# Altium footprint library Connector_JST.PcbLib: 558 footprints (part 7 of 35)
Each footprint in its own frame and in the unit in brackets; x right, y up, seen from the top. Pads: shape width x height; smd on the part's side, far side on the other; paste and mask are expansions set on the pad; w line width, h text height; cw(c..) or ccw(c..) is an arc to the next point about the centre after c.
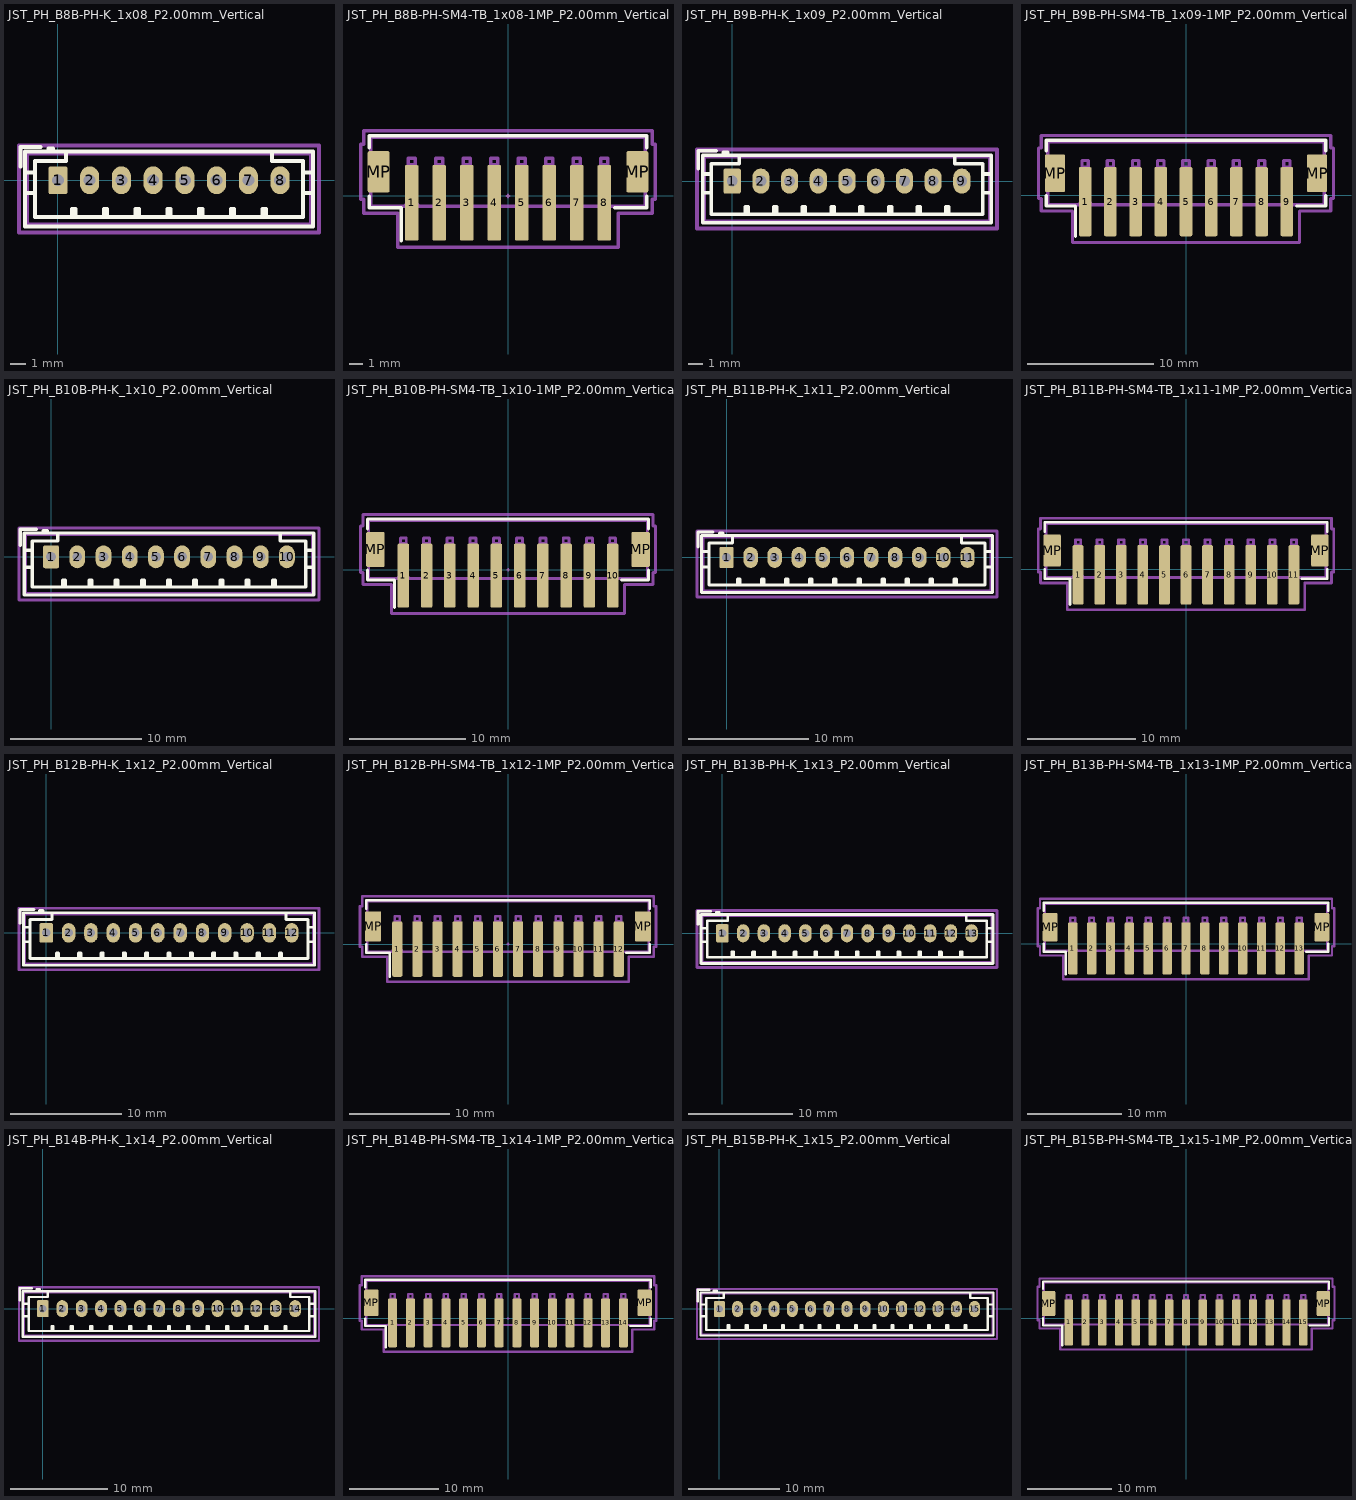
[diagram p6: the footprints below, top view; thin cyan lines are the x and y axes]

## JST_PH_B8B-PH-K_1x08_P2.00mm_Vertical [mm] "JST_PH_B8B-PH-K_1x08_P2.00mm_Vertical"
pads (8):
  rrect21% 1.2x1.75 hole 0.75: 1(0,0)
  rrect100% 1.2x1.75 hole 0.75: 2(2,0) 3(4,0) 4(6,0) 5(8,0) 6(10,0) 7(12,0) 8(14,0)
F.SilkS:
  lines w0.254: -2.36,0.86 -2.36,2.11 -1.11,2.11 ; -2.06,-0.8 -1.45,-0.8 ; -2.06,0.5 -1.45,0.5 ; -0.6,1.81 -0.6,2.01 -0.3,2.01 -0.3,1.81 ; -0.6,1.91 -0.3,1.91 ; 0.5,1.81 0.5,1.2 -1.45,1.2 -1.45,-2.3 15.45,-2.3 15.45,1.2 13.5,1.2 13.5,1.81 ; 0.9,-2.3 0.9,-1.8 1.1,-1.8 1.1,-2.3 ; 1,-2.3 1,-1.8 ; 2.9,-2.3 2.9,-1.8 3.1,-1.8 3.1,-2.3 ; 3,-2.3 3,-1.8 ; 4.9,-2.3 4.9,-1.8 5.1,-1.8 5.1,-2.3 ; 5,-2.3 5,-1.8 ; 6.9,-2.3 6.9,-1.8 7.1,-1.8 7.1,-2.3 ; 7,-2.3 7,-1.8 ; 8.9,-2.3 8.9,-1.8 9.1,-1.8 9.1,-2.3 ; 9,-2.3 9,-1.8 ; 10.9,-2.3 10.9,-1.8 11.1,-1.8 11.1,-2.3 ; 11,-2.3 11,-1.8 ; 12.9,-2.3 12.9,-1.8 13.1,-1.8 13.1,-2.3 ; 13,-2.3 13,-1.8 ; 15.45,-0.8 16.06,-0.8 ; 15.45,0.5 16.06,0.5 ; -2.06,-2.91 -2.06,1.81 16.06,1.81 16.06,-2.91 -2.06,-2.91
Top Component Center:
  lines w0.127: -0.127,0 0.127,0 ; 0,-0.127 0,0.127
Top Assembly:
  lines w0.254: -2.36,0.86 -2.36,2.11 -1.11,2.11 ; -1.95,-2.8 -1.95,1.7 15.95,1.7 15.95,-2.8 -1.95,-2.8
Top Courtyard:
  lines w0.254: -2.45,-3.3 -2.45,2.2 16.45,2.2 16.45,-3.3 -2.45,-3.3
Top Designator:
  text ".Designator" at 3.301,0.799 h1.52
3D body "JST_PH_B8B-PH-K_1x08_P2.00mm_Vertical.step": height 6, standoff -3.4, extent -1.95,-2.8 15.95,1.75

## JST_PH_B8B-PH-SM4-TB_1x08-1MP_P2.00mm_Vertical [mm] "JST_PH_B8B-PH-SM4-TB_1x08-1MP_P2.00mm_Vertical"
pads (10):
  rrect25% 1x5.5 smd: 1(-7,-0.5) 2(-5,-0.5) 3(-3,-0.5) 4(-1,-0.5) 5(1,-0.5) 6(3,-0.5) 7(5,-0.5) 8(7,-0.5)
  rrect16% 1.6x3 smd: MP(-9.4,1.75) MP(9.4,1.75)
F.SilkS:
  lines w0.254: -10.085,-0.01 -10.085,-0.86 -7.76,-0.86 -7.76,-3.25 ; -10.085,3.51 -10.085,4.36 10.085,4.36 10.085,3.51 ; 7.76,-0.86 10.085,-0.86 10.085,-0.01
Top Component Center:
  lines w0.127: -0.127,0 0.127,0 ; 0,-0.127 0,0.127
Top Assembly:
  lines w0.254: -7.5,-0.75 -7,-0.043 -6.5,-0.75 ; -9.975,-0.75 -9.975,4.25 9.975,4.25 9.975,-0.75 -9.975,-0.75 ; -7.25,2.25 -7.25,2.75 -6.75,2.75 -6.75,2.25 -7.25,2.25 ; -5.25,2.25 -5.25,2.75 -4.75,2.75 -4.75,2.25 -5.25,2.25 ; -3.25,2.25 -3.25,2.75 -2.75,2.75 -2.75,2.25 -3.25,2.25 ; -1.25,2.25 -1.25,2.75 -0.75,2.75 -0.75,2.25 -1.25,2.25 ; 0.75,2.25 0.75,2.75 1.25,2.75 1.25,2.25 0.75,2.25 ; 2.75,2.25 2.75,2.75 3.25,2.75 3.25,2.25 2.75,2.25 ; 4.75,2.25 4.75,2.75 5.25,2.75 5.25,2.25 4.75,2.25 ; 6.75,2.25 6.75,2.75 7.25,2.75 7.25,2.25 6.75,2.25
Top Courtyard:
  lines w0.254: -10.7,-0.25 -10.7,3.75 -10.48,3.75 -10.48,4.75 10.48,4.75 10.48,3.75 10.7,3.75 10.7,-0.25 10.48,-0.25 10.48,-1.25 8,-1.25 8,-3.75 -8,-3.75 -8,-1.25 -10.48,-1.25 -10.48,-0.25 -10.7,-0.25
Top Designator:
  text ".Designator" at -3.43,3.085 h1.52

## JST_PH_B9B-PH-K_1x09_P2.00mm_Vertical [mm] "JST_PH_B9B-PH-K_1x09_P2.00mm_Vertical"
pads (9):
  rrect21% 1.2x1.75 hole 0.75: 1(0,0)
  rrect100% 1.2x1.75 hole 0.75: 2(2,0) 3(4,0) 4(6,0) 5(8,0) 6(10,0) 7(12,0) 8(14,0) 9(16,0)
F.SilkS:
  lines w0.254: -2.36,0.86 -2.36,2.11 -1.11,2.11 ; -2.06,-0.8 -1.45,-0.8 ; -2.06,0.5 -1.45,0.5 ; -0.6,1.81 -0.6,2.01 -0.3,2.01 -0.3,1.81 ; -0.6,1.91 -0.3,1.91 ; 0.5,1.81 0.5,1.2 -1.45,1.2 -1.45,-2.3 17.45,-2.3 17.45,1.2 15.5,1.2 15.5,1.81 ; 0.9,-2.3 0.9,-1.8 1.1,-1.8 1.1,-2.3 ; 1,-2.3 1,-1.8 ; 2.9,-2.3 2.9,-1.8 3.1,-1.8 3.1,-2.3 ; 3,-2.3 3,-1.8 ; 4.9,-2.3 4.9,-1.8 5.1,-1.8 5.1,-2.3 ; 5,-2.3 5,-1.8 ; 6.9,-2.3 6.9,-1.8 7.1,-1.8 7.1,-2.3 ; 7,-2.3 7,-1.8 ; 8.9,-2.3 8.9,-1.8 9.1,-1.8 9.1,-2.3 ; 9,-2.3 9,-1.8 ; 10.9,-2.3 10.9,-1.8 11.1,-1.8 11.1,-2.3 ; 11,-2.3 11,-1.8 ; 12.9,-2.3 12.9,-1.8 13.1,-1.8 13.1,-2.3 ; 13,-2.3 13,-1.8 ; 14.9,-2.3 14.9,-1.8 15.1,-1.8 15.1,-2.3 ; 15,-2.3 15,-1.8 ; 17.45,-0.8 18.06,-0.8 ; 17.45,0.5 18.06,0.5 ; -2.06,-2.91 18.06,-2.91 18.06,1.81 -2.06,1.81 -2.06,-2.91
Top Component Center:
  lines w0.127: -0.127,0 0.127,0 ; 0,-0.127 0,0.127
Top Assembly:
  lines w0.254: -2.36,0.86 -2.36,2.11 -1.11,2.11 ; -1.95,-2.8 17.95,-2.8 17.95,1.7 -1.95,1.7 -1.95,-2.8
Top Courtyard:
  lines w0.254: -2.45,-3.3 18.45,-3.3 18.45,2.2 -2.45,2.2 -2.45,-3.3
Top Designator:
  text ".Designator" at 3.682,0.799 h1.52
3D body "JST_PH_B9B-PH-K_1x09_P2.00mm_Vertical.step": height 6, standoff -3.4, extent -1.95,-2.8 17.95,1.75

## JST_PH_B9B-PH-SM4-TB_1x09-1MP_P2.00mm_Vertical [mm] "JST_PH_B9B-PH-SM4-TB_1x09-1MP_P2.00mm_Vertical"
pads (11):
  rrect25% 1x5.5 smd: 1(-8,-0.5) 2(-6,-0.5) 3(-4,-0.5) 4(-2,-0.5) 5(0,-0.5) 6(2,-0.5) 7(4,-0.5) 8(6,-0.5) 9(8,-0.5)
  rrect16% 1.6x3 smd: MP(-10.4,1.75) MP(10.4,1.75)
F.SilkS:
  lines w0.254: -11.085,-0.01 -11.085,-0.86 -8.76,-0.86 -8.76,-3.25 ; -11.085,3.51 -11.085,4.36 11.085,4.36 11.085,3.51 ; 8.76,-0.86 11.085,-0.86 11.085,-0.01
Top Component Center:
  lines w0.127: -0.127,0 0.127,0 ; 0,-0.127 0,0.127
Top Assembly:
  lines w0.254: -8.5,-0.75 -8,-0.043 -7.5,-0.75 ; -10.975,-0.75 10.975,-0.75 10.975,4.25 -10.975,4.25 -10.975,-0.75 ; -8.25,2.25 -7.75,2.25 -7.75,2.75 -8.25,2.75 -8.25,2.25 ; -6.25,2.25 -5.75,2.25 -5.75,2.75 -6.25,2.75 -6.25,2.25 ; -4.25,2.25 -3.75,2.25 -3.75,2.75 -4.25,2.75 -4.25,2.25 ; -2.25,2.25 -1.75,2.25 -1.75,2.75 -2.25,2.75 -2.25,2.25 ; -0.25,2.25 0.25,2.25 0.25,2.75 -0.25,2.75 -0.25,2.25 ; 1.75,2.25 2.25,2.25 2.25,2.75 1.75,2.75 1.75,2.25 ; 3.75,2.25 4.25,2.25 4.25,2.75 3.75,2.75 3.75,2.25 ; 5.75,2.25 6.25,2.25 6.25,2.75 5.75,2.75 5.75,2.25 ; 7.75,2.25 8.25,2.25 8.25,2.75 7.75,2.75 7.75,2.25
Top Courtyard:
  lines w0.254: -11.7,-0.25 -11.48,-0.25 -11.48,-1.25 -9,-1.25 -9,-3.75 9,-3.75 9,-1.25 11.48,-1.25 11.48,-0.25 11.7,-0.25 11.7,3.75 11.48,3.75 11.48,4.75 -11.48,4.75 -11.48,3.75 -11.7,3.75 -11.7,-0.25
Top Designator:
  text ".Designator" at -3.43,3.085 h1.52

## JST_PH_B10B-PH-K_1x10_P2.00mm_Vertical [mm] "JST_PH_B10B-PH-K_1x10_P2.00mm_Vertical"
pads (10):
  rrect21% 1.2x1.75 hole 0.75: 1(0,0)
  rrect100% 1.2x1.75 hole 0.75: 2(2,0) 3(4,0) 4(6,0) 5(8,0) 6(10,0) 7(12,0) 8(14,0) 9(16,0) 10(18,0)
F.SilkS:
  lines w0.254: -2.36,0.86 -2.36,2.11 -1.11,2.11 ; -2.06,-0.8 -1.45,-0.8 ; -2.06,0.5 -1.45,0.5 ; -0.6,1.81 -0.6,2.01 -0.3,2.01 -0.3,1.81 ; -0.6,1.91 -0.3,1.91 ; 0.5,1.81 0.5,1.2 -1.45,1.2 -1.45,-2.3 19.45,-2.3 19.45,1.2 17.5,1.2 17.5,1.81 ; 0.9,-2.3 0.9,-1.8 1.1,-1.8 1.1,-2.3 ; 1,-2.3 1,-1.8 ; 2.9,-2.3 2.9,-1.8 3.1,-1.8 3.1,-2.3 ; 3,-2.3 3,-1.8 ; 4.9,-2.3 4.9,-1.8 5.1,-1.8 5.1,-2.3 ; 5,-2.3 5,-1.8 ; 6.9,-2.3 6.9,-1.8 7.1,-1.8 7.1,-2.3 ; 7,-2.3 7,-1.8 ; 8.9,-2.3 8.9,-1.8 9.1,-1.8 9.1,-2.3 ; 9,-2.3 9,-1.8 ; 10.9,-2.3 10.9,-1.8 11.1,-1.8 11.1,-2.3 ; 11,-2.3 11,-1.8 ; 12.9,-2.3 12.9,-1.8 13.1,-1.8 13.1,-2.3 ; 13,-2.3 13,-1.8 ; 14.9,-2.3 14.9,-1.8 15.1,-1.8 15.1,-2.3 ; 15,-2.3 15,-1.8 ; 16.9,-2.3 16.9,-1.8 17.1,-1.8 17.1,-2.3 ; 17,-2.3 17,-1.8 ; 19.45,-0.8 20.06,-0.8 ; 19.45,0.5 20.06,0.5 ; -2.06,-2.91 20.06,-2.91 20.06,1.81 -2.06,1.81 -2.06,-2.91
Top Component Center:
  lines w0.127: -0.127,0 0.127,0 ; 0,-0.127 0,0.127
Top Assembly:
  lines w0.254: -2.36,0.86 -2.36,2.11 -1.11,2.11 ; -1.95,-2.8 19.95,-2.8 19.95,1.7 -1.95,1.7 -1.95,-2.8
Top Courtyard:
  lines w0.254: -2.45,-3.3 20.45,-3.3 20.45,2.2 -2.45,2.2 -2.45,-3.3
Top Designator:
  text ".Designator" at 5.587,0.799 h1.52
3D body "JST_PH_B10B-PH-K_1x10_P2.00mm_Vertical.step": height 6, standoff -3.4, extent -1.95,-2.8 19.95,1.75

## JST_PH_B10B-PH-SM4-TB_1x10-1MP_P2.00mm_Vertical [mm] "JST_PH_B10B-PH-SM4-TB_1x10-1MP_P2.00mm_Vertical"
pads (12):
  rrect25% 1x5.5 smd: 1(-9,-0.5) 2(-7,-0.5) 3(-5,-0.5) 4(-3,-0.5) 5(-1,-0.5) 6(1,-0.5) 7(3,-0.5) 8(5,-0.5) 9(7,-0.5) 10(9,-0.5)
  rrect16% 1.6x3 smd: MP(-11.4,1.75) MP(11.4,1.75)
F.SilkS:
  lines w0.254: -12.085,-0.01 -12.085,-0.86 -9.76,-0.86 -9.76,-3.25 ; -12.085,3.51 -12.085,4.36 12.085,4.36 12.085,3.51 ; 9.76,-0.86 12.085,-0.86 12.085,-0.01
Top Component Center:
  lines w0.127: -0.127,0 0.127,0 ; 0,-0.127 0,0.127
Top Assembly:
  lines w0.254: -9.5,-0.75 -9,-0.043 -8.5,-0.75 ; -11.975,-0.75 -11.975,4.25 11.975,4.25 11.975,-0.75 -11.975,-0.75 ; -9.25,2.25 -9.25,2.75 -8.75,2.75 -8.75,2.25 -9.25,2.25 ; -7.25,2.25 -7.25,2.75 -6.75,2.75 -6.75,2.25 -7.25,2.25 ; -5.25,2.25 -5.25,2.75 -4.75,2.75 -4.75,2.25 -5.25,2.25 ; -3.25,2.25 -3.25,2.75 -2.75,2.75 -2.75,2.25 -3.25,2.25 ; -1.25,2.25 -1.25,2.75 -0.75,2.75 -0.75,2.25 -1.25,2.25 ; 0.75,2.25 0.75,2.75 1.25,2.75 1.25,2.25 0.75,2.25 ; 2.75,2.25 2.75,2.75 3.25,2.75 3.25,2.25 2.75,2.25 ; 4.75,2.25 4.75,2.75 5.25,2.75 5.25,2.25 4.75,2.25 ; 6.75,2.25 6.75,2.75 7.25,2.75 7.25,2.25 6.75,2.25 ; 8.75,2.25 8.75,2.75 9.25,2.75 9.25,2.25 8.75,2.25
Top Courtyard:
  lines w0.254: -12.7,-0.25 -12.7,3.75 -12.48,3.75 -12.48,4.75 12.48,4.75 12.48,3.75 12.7,3.75 12.7,-0.25 12.48,-0.25 12.48,-1.25 10,-1.25 10,-3.75 -10,-3.75 -10,-1.25 -12.48,-1.25 -12.48,-0.25 -12.7,-0.25
Top Designator:
  text ".Designator" at -3.557,3.212 h1.52

## JST_PH_B11B-PH-K_1x11_P2.00mm_Vertical [mm] "JST_PH_B11B-PH-K_1x11_P2.00mm_Vertical"
pads (11):
  rrect21% 1.2x1.75 hole 0.75: 1(0,0)
  rrect100% 1.2x1.75 hole 0.75: 2(2,0) 3(4,0) 4(6,0) 5(8,0) 6(10,0) 7(12,0) 8(14,0) 9(16,0) 10(18,0) 11(20,0)
F.SilkS:
  lines w0.254: -2.36,0.86 -2.36,2.11 -1.11,2.11 ; -2.06,-0.8 -1.45,-0.8 ; -2.06,0.5 -1.45,0.5 ; -0.6,1.81 -0.6,2.01 -0.3,2.01 -0.3,1.81 ; -0.6,1.91 -0.3,1.91 ; 0.5,1.81 0.5,1.2 -1.45,1.2 -1.45,-2.3 21.45,-2.3 21.45,1.2 19.5,1.2 19.5,1.81 ; 0.9,-2.3 0.9,-1.8 1.1,-1.8 1.1,-2.3 ; 1,-2.3 1,-1.8 ; 2.9,-2.3 2.9,-1.8 3.1,-1.8 3.1,-2.3 ; 3,-2.3 3,-1.8 ; 4.9,-2.3 4.9,-1.8 5.1,-1.8 5.1,-2.3 ; 5,-2.3 5,-1.8 ; 6.9,-2.3 6.9,-1.8 7.1,-1.8 7.1,-2.3 ; 7,-2.3 7,-1.8 ; 8.9,-2.3 8.9,-1.8 9.1,-1.8 9.1,-2.3 ; 9,-2.3 9,-1.8 ; 10.9,-2.3 10.9,-1.8 11.1,-1.8 11.1,-2.3 ; 11,-2.3 11,-1.8 ; 12.9,-2.3 12.9,-1.8 13.1,-1.8 13.1,-2.3 ; 13,-2.3 13,-1.8 ; 14.9,-2.3 14.9,-1.8 15.1,-1.8 15.1,-2.3 ; 15,-2.3 15,-1.8 ; 16.9,-2.3 16.9,-1.8 17.1,-1.8 17.1,-2.3 ; 17,-2.3 17,-1.8 ; 18.9,-2.3 18.9,-1.8 19.1,-1.8 19.1,-2.3 ; 19,-2.3 19,-1.8 ; 21.45,-0.8 22.06,-0.8 ; 21.45,0.5 22.06,0.5 ; -2.06,-2.91 -2.06,1.81 22.06,1.81 22.06,-2.91 -2.06,-2.91
Top Component Center:
  lines w0.127: -0.127,0 0.127,0 ; 0,-0.127 0,0.127
Top Assembly:
  lines w0.254: -2.36,0.86 -2.36,2.11 -1.11,2.11 ; -1.95,-2.8 -1.95,1.7 21.95,1.7 21.95,-2.8 -1.95,-2.8
Top Courtyard:
  lines w0.254: -2.45,-3.3 -2.45,2.2 22.45,2.2 22.45,-3.3 -2.45,-3.3
Top Designator:
  text ".Designator" at 5.46,0.672 h1.52
3D body "JST_PH_B11B-PH-K_1x11_P2.00mm_Vertical.step": height 6, standoff -3.4, extent -1.95,-2.8 21.95,1.75

## JST_PH_B11B-PH-SM4-TB_1x11-1MP_P2.00mm_Vertical [mm] "JST_PH_B11B-PH-SM4-TB_1x11-1MP_P2.00mm_Vertical"
pads (13):
  rrect25% 1x5.5 smd: 1(-10,-0.5) 2(-8,-0.5) 3(-6,-0.5) 4(-4,-0.5) 5(-2,-0.5) 6(0,-0.5) 7(2,-0.5) 8(4,-0.5) 9(6,-0.5) 10(8,-0.5) 11(10,-0.5)
  rrect16% 1.6x3 smd: MP(-12.4,1.75) MP(12.4,1.75)
F.SilkS:
  lines w0.254: -13.085,-0.01 -13.085,-0.86 -10.76,-0.86 -10.76,-3.25 ; -13.085,3.51 -13.085,4.36 13.085,4.36 13.085,3.51 ; 10.76,-0.86 13.085,-0.86 13.085,-0.01
Top Component Center:
  lines w0.127: -0.127,0 0.127,0 ; 0,-0.127 0,0.127
Top Assembly:
  lines w0.254: -10.5,-0.75 -10,-0.043 -9.5,-0.75 ; -12.975,-0.75 -12.975,4.25 12.975,4.25 12.975,-0.75 -12.975,-0.75 ; -10.25,2.25 -10.25,2.75 -9.75,2.75 -9.75,2.25 -10.25,2.25 ; -8.25,2.25 -8.25,2.75 -7.75,2.75 -7.75,2.25 -8.25,2.25 ; -6.25,2.25 -6.25,2.75 -5.75,2.75 -5.75,2.25 -6.25,2.25 ; -4.25,2.25 -4.25,2.75 -3.75,2.75 -3.75,2.25 -4.25,2.25 ; -2.25,2.25 -2.25,2.75 -1.75,2.75 -1.75,2.25 -2.25,2.25 ; -0.25,2.25 -0.25,2.75 0.25,2.75 0.25,2.25 -0.25,2.25 ; 1.75,2.25 1.75,2.75 2.25,2.75 2.25,2.25 1.75,2.25 ; 3.75,2.25 3.75,2.75 4.25,2.75 4.25,2.25 3.75,2.25 ; 5.75,2.25 5.75,2.75 6.25,2.75 6.25,2.25 5.75,2.25 ; 7.75,2.25 7.75,2.75 8.25,2.75 8.25,2.25 7.75,2.25 ; 9.75,2.25 9.75,2.75 10.25,2.75 10.25,2.25 9.75,2.25
Top Courtyard:
  lines w0.254: -13.7,-0.25 -13.7,3.75 -13.48,3.75 -13.48,4.75 13.48,4.75 13.48,3.75 13.7,3.75 13.7,-0.25 13.48,-0.25 13.48,-1.25 11,-1.25 11,-3.75 -11,-3.75 -11,-1.25 -13.48,-1.25 -13.48,-0.25 -13.7,-0.25
Top Designator:
  text ".Designator" at -3.43,3.085 h1.52

## JST_PH_B12B-PH-K_1x12_P2.00mm_Vertical [mm] "JST_PH_B12B-PH-K_1x12_P2.00mm_Vertical"
pads (12):
  rrect21% 1.2x1.75 hole 0.75: 1(0,0)
  rrect100% 1.2x1.75 hole 0.75: 2(2,0) 3(4,0) 4(6,0) 5(8,0) 6(10,0) 7(12,0) 8(14,0) 9(16,0) 10(18,0) 11(20,0) 12(22,0)
F.SilkS:
  lines w0.254: -2.36,0.86 -2.36,2.11 -1.11,2.11 ; -2.06,-0.8 -1.45,-0.8 ; -2.06,0.5 -1.45,0.5 ; -0.6,1.81 -0.6,2.01 -0.3,2.01 -0.3,1.81 ; -0.6,1.91 -0.3,1.91 ; 0.5,1.81 0.5,1.2 -1.45,1.2 -1.45,-2.3 23.45,-2.3 23.45,1.2 21.5,1.2 21.5,1.81 ; 0.9,-2.3 0.9,-1.8 1.1,-1.8 1.1,-2.3 ; 1,-2.3 1,-1.8 ; 2.9,-2.3 2.9,-1.8 3.1,-1.8 3.1,-2.3 ; 3,-2.3 3,-1.8 ; 4.9,-2.3 4.9,-1.8 5.1,-1.8 5.1,-2.3 ; 5,-2.3 5,-1.8 ; 6.9,-2.3 6.9,-1.8 7.1,-1.8 7.1,-2.3 ; 7,-2.3 7,-1.8 ; 8.9,-2.3 8.9,-1.8 9.1,-1.8 9.1,-2.3 ; 9,-2.3 9,-1.8 ; 10.9,-2.3 10.9,-1.8 11.1,-1.8 11.1,-2.3 ; 11,-2.3 11,-1.8 ; 12.9,-2.3 12.9,-1.8 13.1,-1.8 13.1,-2.3 ; 13,-2.3 13,-1.8 ; 14.9,-2.3 14.9,-1.8 15.1,-1.8 15.1,-2.3 ; 15,-2.3 15,-1.8 ; 16.9,-2.3 16.9,-1.8 17.1,-1.8 17.1,-2.3 ; 17,-2.3 17,-1.8 ; 18.9,-2.3 18.9,-1.8 19.1,-1.8 19.1,-2.3 ; 19,-2.3 19,-1.8 ; 20.9,-2.3 20.9,-1.8 21.1,-1.8 21.1,-2.3 ; 21,-2.3 21,-1.8 ; 23.45,-0.8 24.06,-0.8 ; 23.45,0.5 24.06,0.5 ; -2.06,-2.91 24.06,-2.91 24.06,1.81 -2.06,1.81 -2.06,-2.91
Top Component Center:
  lines w0.127: -0.127,0 0.127,0 ; 0,-0.127 0,0.127
Top Assembly:
  lines w0.254: -2.36,0.86 -2.36,2.11 -1.11,2.11 ; -1.95,-2.8 23.95,-2.8 23.95,1.7 -1.95,1.7 -1.95,-2.8
Top Courtyard:
  lines w0.254: -2.45,-3.3 24.45,-3.3 24.45,2.2 -2.45,2.2 -2.45,-3.3
Top Designator:
  text ".Designator" at 7.492,0.672 h1.52
3D body "JST_PH_B12B-PH-K_1x12_P2.00mm_Vertical.step": height 6, standoff -3.4, extent -1.95,-2.8 23.95,1.75

## JST_PH_B12B-PH-SM4-TB_1x12-1MP_P2.00mm_Vertical [mm] "JST_PH_B12B-PH-SM4-TB_1x12-1MP_P2.00mm_Vertical"
pads (14):
  rrect25% 1x5.5 smd: 1(-11,-0.5) 2(-9,-0.5) 3(-7,-0.5) 4(-5,-0.5) 5(-3,-0.5) 6(-1,-0.5) 7(1,-0.5) 8(3,-0.5) 9(5,-0.5) 10(7,-0.5) 11(9,-0.5) 12(11,-0.5)
  rrect16% 1.6x3 smd: MP(-13.4,1.75) MP(13.4,1.75)
F.SilkS:
  lines w0.254: -14.085,-0.01 -14.085,-0.86 -11.76,-0.86 -11.76,-3.25 ; -14.085,3.51 -14.085,4.36 14.085,4.36 14.085,3.51 ; 11.76,-0.86 14.085,-0.86 14.085,-0.01
Top Component Center:
  lines w0.127: -0.127,0 0.127,0 ; 0,-0.127 0,0.127
Top Assembly:
  lines w0.254: -11.5,-0.75 -11,-0.043 -10.5,-0.75 ; -13.975,-0.75 13.975,-0.75 13.975,4.25 -13.975,4.25 -13.975,-0.75 ; -11.25,2.25 -10.75,2.25 -10.75,2.75 -11.25,2.75 -11.25,2.25 ; -9.25,2.25 -8.75,2.25 -8.75,2.75 -9.25,2.75 -9.25,2.25 ; -7.25,2.25 -6.75,2.25 -6.75,2.75 -7.25,2.75 -7.25,2.25 ; -5.25,2.25 -4.75,2.25 -4.75,2.75 -5.25,2.75 -5.25,2.25 ; -3.25,2.25 -2.75,2.25 -2.75,2.75 -3.25,2.75 -3.25,2.25 ; -1.25,2.25 -0.75,2.25 -0.75,2.75 -1.25,2.75 -1.25,2.25 ; 0.75,2.25 1.25,2.25 1.25,2.75 0.75,2.75 0.75,2.25 ; 2.75,2.25 3.25,2.25 3.25,2.75 2.75,2.75 2.75,2.25 ; 4.75,2.25 5.25,2.25 5.25,2.75 4.75,2.75 4.75,2.25 ; 6.75,2.25 7.25,2.25 7.25,2.75 6.75,2.75 6.75,2.25 ; 8.75,2.25 9.25,2.25 9.25,2.75 8.75,2.75 8.75,2.25 ; 10.75,2.25 11.25,2.25 11.25,2.75 10.75,2.75 10.75,2.25
Top Courtyard:
  lines w0.254: -14.7,-0.25 -14.48,-0.25 -14.48,-1.25 -12,-1.25 -12,-3.75 12,-3.75 12,-1.25 14.48,-1.25 14.48,-0.25 14.7,-0.25 14.7,3.75 14.48,3.75 14.48,4.75 -14.48,4.75 -14.48,3.75 -14.7,3.75 -14.7,-0.25
Top Designator:
  text ".Designator" at -3.43,3.212 h1.52

## JST_PH_B13B-PH-K_1x13_P2.00mm_Vertical [mm] "JST_PH_B13B-PH-K_1x13_P2.00mm_Vertical"
pads (13):
  rrect21% 1.2x1.75 hole 0.75: 1(0,0)
  rrect100% 1.2x1.75 hole 0.75: 2(2,0) 3(4,0) 4(6,0) 5(8,0) 6(10,0) 7(12,0) 8(14,0) 9(16,0) 10(18,0) 11(20,0) 12(22,0) 13(24,0)
F.SilkS:
  lines w0.254: -2.36,0.86 -2.36,2.11 -1.11,2.11 ; -2.06,-0.8 -1.45,-0.8 ; -2.06,0.5 -1.45,0.5 ; -0.6,1.81 -0.6,2.01 -0.3,2.01 -0.3,1.81 ; -0.6,1.91 -0.3,1.91 ; 0.5,1.81 0.5,1.2 -1.45,1.2 -1.45,-2.3 25.45,-2.3 25.45,1.2 23.5,1.2 23.5,1.81 ; 0.9,-2.3 0.9,-1.8 1.1,-1.8 1.1,-2.3 ; 1,-2.3 1,-1.8 ; 2.9,-2.3 2.9,-1.8 3.1,-1.8 3.1,-2.3 ; 3,-2.3 3,-1.8 ; 4.9,-2.3 4.9,-1.8 5.1,-1.8 5.1,-2.3 ; 5,-2.3 5,-1.8 ; 6.9,-2.3 6.9,-1.8 7.1,-1.8 7.1,-2.3 ; 7,-2.3 7,-1.8 ; 8.9,-2.3 8.9,-1.8 9.1,-1.8 9.1,-2.3 ; 9,-2.3 9,-1.8 ; 10.9,-2.3 10.9,-1.8 11.1,-1.8 11.1,-2.3 ; 11,-2.3 11,-1.8 ; 12.9,-2.3 12.9,-1.8 13.1,-1.8 13.1,-2.3 ; 13,-2.3 13,-1.8 ; 14.9,-2.3 14.9,-1.8 15.1,-1.8 15.1,-2.3 ; 15,-2.3 15,-1.8 ; 16.9,-2.3 16.9,-1.8 17.1,-1.8 17.1,-2.3 ; 17,-2.3 17,-1.8 ; 18.9,-2.3 18.9,-1.8 19.1,-1.8 19.1,-2.3 ; 19,-2.3 19,-1.8 ; 20.9,-2.3 20.9,-1.8 21.1,-1.8 21.1,-2.3 ; 21,-2.3 21,-1.8 ; 22.9,-2.3 22.9,-1.8 23.1,-1.8 23.1,-2.3 ; 23,-2.3 23,-1.8 ; 25.45,-0.8 26.06,-0.8 ; 25.45,0.5 26.06,0.5 ; -2.06,-2.91 26.06,-2.91 26.06,1.81 -2.06,1.81 -2.06,-2.91
Top Component Center:
  lines w0.127: -0.127,0 0.127,0 ; 0,-0.127 0,0.127
Top Assembly:
  lines w0.254: -2.36,0.86 -2.36,2.11 -1.11,2.11 ; -1.95,-2.8 25.95,-2.8 25.95,1.7 -1.95,1.7 -1.95,-2.8
Top Courtyard:
  lines w0.254: -2.45,-3.3 26.45,-3.3 26.45,2.2 -2.45,2.2 -2.45,-3.3
Top Designator:
  text ".Designator" at 7.619,0.672 h1.52
3D body "JST_PH_B13B-PH-K_1x13_P2.00mm_Vertical.step": height 6, standoff -3.4, extent -1.95,-2.8 25.95,1.75

## JST_PH_B13B-PH-SM4-TB_1x13-1MP_P2.00mm_Vertical [mm] "JST_PH_B13B-PH-SM4-TB_1x13-1MP_P2.00mm_Vertical"
pads (15):
  rrect25% 1x5.5 smd: 1(-12,-0.5) 2(-10,-0.5) 3(-8,-0.5) 4(-6,-0.5) 5(-4,-0.5) 6(-2,-0.5) 7(0,-0.5) 8(2,-0.5) 9(4,-0.5) 10(6,-0.5) 11(8,-0.5) 12(10,-0.5) 13(12,-0.5)
  rrect16% 1.6x3 smd: MP(-14.4,1.75) MP(14.4,1.75)
F.SilkS:
  lines w0.254: -15.085,-0.01 -15.085,-0.86 -12.76,-0.86 -12.76,-3.25 ; -15.085,3.51 -15.085,4.36 15.085,4.36 15.085,3.51 ; 12.76,-0.86 15.085,-0.86 15.085,-0.01
Top Component Center:
  lines w0.127: -0.127,0 0.127,0 ; 0,-0.127 0,0.127
Top Assembly:
  lines w0.254: -12.5,-0.75 -12,-0.043 -11.5,-0.75 ; -14.975,-0.75 14.975,-0.75 14.975,4.25 -14.975,4.25 -14.975,-0.75 ; -12.25,2.25 -11.75,2.25 -11.75,2.75 -12.25,2.75 -12.25,2.25 ; -10.25,2.25 -9.75,2.25 -9.75,2.75 -10.25,2.75 -10.25,2.25 ; -8.25,2.25 -7.75,2.25 -7.75,2.75 -8.25,2.75 -8.25,2.25 ; -6.25,2.25 -5.75,2.25 -5.75,2.75 -6.25,2.75 -6.25,2.25 ; -4.25,2.25 -3.75,2.25 -3.75,2.75 -4.25,2.75 -4.25,2.25 ; -2.25,2.25 -1.75,2.25 -1.75,2.75 -2.25,2.75 -2.25,2.25 ; -0.25,2.25 0.25,2.25 0.25,2.75 -0.25,2.75 -0.25,2.25 ; 1.75,2.25 2.25,2.25 2.25,2.75 1.75,2.75 1.75,2.25 ; 3.75,2.25 4.25,2.25 4.25,2.75 3.75,2.75 3.75,2.25 ; 5.75,2.25 6.25,2.25 6.25,2.75 5.75,2.75 5.75,2.25 ; 7.75,2.25 8.25,2.25 8.25,2.75 7.75,2.75 7.75,2.25 ; 9.75,2.25 10.25,2.25 10.25,2.75 9.75,2.75 9.75,2.25 ; 11.75,2.25 12.25,2.25 12.25,2.75 11.75,2.75 11.75,2.25
Top Courtyard:
  lines w0.254: -15.7,-0.25 -15.48,-0.25 -15.48,-1.25 -13,-1.25 -13,-3.75 13,-3.75 13,-1.25 15.48,-1.25 15.48,-0.25 15.7,-0.25 15.7,3.75 15.48,3.75 15.48,4.75 -15.48,4.75 -15.48,3.75 -15.7,3.75 -15.7,-0.25
Top Designator:
  text ".Designator" at -3.303,3.212 h1.52

## JST_PH_B14B-PH-K_1x14_P2.00mm_Vertical [mm] "JST_PH_B14B-PH-K_1x14_P2.00mm_Vertical"
pads (14):
  rrect21% 1.2x1.75 hole 0.75: 1(0,0)
  rrect100% 1.2x1.75 hole 0.75: 2(2,0) 3(4,0) 4(6,0) 5(8,0) 6(10,0) 7(12,0) 8(14,0) 9(16,0) 10(18,0) 11(20,0) 12(22,0) 13(24,0) 14(26,0)
F.SilkS:
  lines w0.254: -2.36,0.86 -2.36,2.11 -1.11,2.11 ; -2.06,-0.8 -1.45,-0.8 ; -2.06,0.5 -1.45,0.5 ; -0.6,1.81 -0.6,2.01 -0.3,2.01 -0.3,1.81 ; -0.6,1.91 -0.3,1.91 ; 0.5,1.81 0.5,1.2 -1.45,1.2 -1.45,-2.3 27.45,-2.3 27.45,1.2 25.5,1.2 25.5,1.81 ; 0.9,-2.3 0.9,-1.8 1.1,-1.8 1.1,-2.3 ; 1,-2.3 1,-1.8 ; 2.9,-2.3 2.9,-1.8 3.1,-1.8 3.1,-2.3 ; 3,-2.3 3,-1.8 ; 4.9,-2.3 4.9,-1.8 5.1,-1.8 5.1,-2.3 ; 5,-2.3 5,-1.8 ; 6.9,-2.3 6.9,-1.8 7.1,-1.8 7.1,-2.3 ; 7,-2.3 7,-1.8 ; 8.9,-2.3 8.9,-1.8 9.1,-1.8 9.1,-2.3 ; 9,-2.3 9,-1.8 ; 10.9,-2.3 10.9,-1.8 11.1,-1.8 11.1,-2.3 ; 11,-2.3 11,-1.8 ; 12.9,-2.3 12.9,-1.8 13.1,-1.8 13.1,-2.3 ; 13,-2.3 13,-1.8 ; 14.9,-2.3 14.9,-1.8 15.1,-1.8 15.1,-2.3 ; 15,-2.3 15,-1.8 ; 16.9,-2.3 16.9,-1.8 17.1,-1.8 17.1,-2.3 ; 17,-2.3 17,-1.8 ; 18.9,-2.3 18.9,-1.8 19.1,-1.8 19.1,-2.3 ; 19,-2.3 19,-1.8 ; 20.9,-2.3 20.9,-1.8 21.1,-1.8 21.1,-2.3 ; 21,-2.3 21,-1.8 ; 22.9,-2.3 22.9,-1.8 23.1,-1.8 23.1,-2.3 ; 23,-2.3 23,-1.8 ; 24.9,-2.3 24.9,-1.8 25.1,-1.8 25.1,-2.3 ; 25,-2.3 25,-1.8 ; 27.45,-0.8 28.06,-0.8 ; 27.45,0.5 28.06,0.5 ; -2.06,-2.91 28.06,-2.91 28.06,1.81 -2.06,1.81 -2.06,-2.91
Top Component Center:
  lines w0.127: -0.127,0 0.127,0 ; 0,-0.127 0,0.127
Top Assembly:
  lines w0.254: -2.36,0.86 -2.36,2.11 -1.11,2.11 ; -1.95,-2.8 27.95,-2.8 27.95,1.7 -1.95,1.7 -1.95,-2.8
Top Courtyard:
  lines w0.254: -2.45,-3.3 28.45,-3.3 28.45,2.2 -2.45,2.2 -2.45,-3.3
Top Designator:
  text ".Designator" at 9.524,0.799 h1.52
3D body "JST_PH_B14B-PH-K_1x14_P2.00mm_Vertical.step": height 6, standoff -3.4, extent -1.95,-2.8 27.95,1.75

## JST_PH_B14B-PH-SM4-TB_1x14-1MP_P2.00mm_Vertical [mm] "JST_PH_B14B-PH-SM4-TB_1x14-1MP_P2.00mm_Vertical"
pads (16):
  rrect25% 1x5.5 smd: 1(-13,-0.5) 2(-11,-0.5) 3(-9,-0.5) 4(-7,-0.5) 5(-5,-0.5) 6(-3,-0.5) 7(-1,-0.5) 8(1,-0.5) 9(3,-0.5) 10(5,-0.5) 11(7,-0.5) 12(9,-0.5) 13(11,-0.5) 14(13,-0.5)
  rrect16% 1.6x3 smd: MP(-15.4,1.75) MP(15.4,1.75)
F.SilkS:
  lines w0.254: -16.085,-0.01 -16.085,-0.86 -13.76,-0.86 -13.76,-3.25 ; -16.085,3.51 -16.085,4.36 16.085,4.36 16.085,3.51 ; 13.76,-0.86 16.085,-0.86 16.085,-0.01
Top Component Center:
  lines w0.127: -0.127,0 0.127,0 ; 0,-0.127 0,0.127
Top Assembly:
  lines w0.254: -13.5,-0.75 -13,-0.043 -12.5,-0.75 ; -15.975,-0.75 15.975,-0.75 15.975,4.25 -15.975,4.25 -15.975,-0.75 ; -13.25,2.25 -12.75,2.25 -12.75,2.75 -13.25,2.75 -13.25,2.25 ; -11.25,2.25 -10.75,2.25 -10.75,2.75 -11.25,2.75 -11.25,2.25 ; -9.25,2.25 -8.75,2.25 -8.75,2.75 -9.25,2.75 -9.25,2.25 ; -7.25,2.25 -6.75,2.25 -6.75,2.75 -7.25,2.75 -7.25,2.25 ; -5.25,2.25 -4.75,2.25 -4.75,2.75 -5.25,2.75 -5.25,2.25 ; -3.25,2.25 -2.75,2.25 -2.75,2.75 -3.25,2.75 -3.25,2.25 ; -1.25,2.25 -0.75,2.25 -0.75,2.75 -1.25,2.75 -1.25,2.25 ; 0.75,2.25 1.25,2.25 1.25,2.75 0.75,2.75 0.75,2.25 ; 2.75,2.25 3.25,2.25 3.25,2.75 2.75,2.75 2.75,2.25 ; 4.75,2.25 5.25,2.25 5.25,2.75 4.75,2.75 4.75,2.25 ; 6.75,2.25 7.25,2.25 7.25,2.75 6.75,2.75 6.75,2.25 ; 8.75,2.25 9.25,2.25 9.25,2.75 8.75,2.75 8.75,2.25 ; 10.75,2.25 11.25,2.25 11.25,2.75 10.75,2.75 10.75,2.25 ; 12.75,2.25 13.25,2.25 13.25,2.75 12.75,2.75 12.75,2.25
Top Courtyard:
  lines w0.254: -16.7,-0.25 -16.48,-0.25 -16.48,-1.25 -14,-1.25 -14,-3.75 14,-3.75 14,-1.25 16.48,-1.25 16.48,-0.25 16.7,-0.25 16.7,3.75 16.48,3.75 16.48,4.75 -16.48,4.75 -16.48,3.75 -16.7,3.75 -16.7,-0.25
Top Designator:
  text ".Designator" at -3.684,3.212 h1.52

## JST_PH_B15B-PH-K_1x15_P2.00mm_Vertical [mm] "JST_PH_B15B-PH-K_1x15_P2.00mm_Vertical"
pads (15):
  rrect21% 1.2x1.75 hole 0.75: 1(0,0)
  rrect100% 1.2x1.75 hole 0.75: 2(2,0) 3(4,0) 4(6,0) 5(8,0) 6(10,0) 7(12,0) 8(14,0) 9(16,0) 10(18,0) 11(20,0) 12(22,0) 13(24,0) 14(26,0) 15(28,0)
F.SilkS:
  lines w0.254: -2.36,0.86 -2.36,2.11 -1.11,2.11 ; -2.06,-0.8 -1.45,-0.8 ; -2.06,0.5 -1.45,0.5 ; -0.6,1.81 -0.6,2.01 -0.3,2.01 -0.3,1.81 ; -0.6,1.91 -0.3,1.91 ; 0.5,1.81 0.5,1.2 -1.45,1.2 -1.45,-2.3 29.45,-2.3 29.45,1.2 27.5,1.2 27.5,1.81 ; 0.9,-2.3 0.9,-1.8 1.1,-1.8 1.1,-2.3 ; 1,-2.3 1,-1.8 ; 2.9,-2.3 2.9,-1.8 3.1,-1.8 3.1,-2.3 ; 3,-2.3 3,-1.8 ; 4.9,-2.3 4.9,-1.8 5.1,-1.8 5.1,-2.3 ; 5,-2.3 5,-1.8 ; 6.9,-2.3 6.9,-1.8 7.1,-1.8 7.1,-2.3 ; 7,-2.3 7,-1.8 ; 8.9,-2.3 8.9,-1.8 9.1,-1.8 9.1,-2.3 ; 9,-2.3 9,-1.8 ; 10.9,-2.3 10.9,-1.8 11.1,-1.8 11.1,-2.3 ; 11,-2.3 11,-1.8 ; 12.9,-2.3 12.9,-1.8 13.1,-1.8 13.1,-2.3 ; 13,-2.3 13,-1.8 ; 14.9,-2.3 14.9,-1.8 15.1,-1.8 15.1,-2.3 ; 15,-2.3 15,-1.8 ; 16.9,-2.3 16.9,-1.8 17.1,-1.8 17.1,-2.3 ; 17,-2.3 17,-1.8 ; 18.9,-2.3 18.9,-1.8 19.1,-1.8 19.1,-2.3 ; 19,-2.3 19,-1.8 ; 20.9,-2.3 20.9,-1.8 21.1,-1.8 21.1,-2.3 ; 21,-2.3 21,-1.8 ; 22.9,-2.3 22.9,-1.8 23.1,-1.8 23.1,-2.3 ; 23,-2.3 23,-1.8 ; 24.9,-2.3 24.9,-1.8 25.1,-1.8 25.1,-2.3 ; 25,-2.3 25,-1.8 ; 26.9,-2.3 26.9,-1.8 27.1,-1.8 27.1,-2.3 ; 27,-2.3 27,-1.8 ; 29.45,-0.8 30.06,-0.8 ; 29.45,0.5 30.06,0.5 ; -2.06,-2.91 -2.06,1.81 30.06,1.81 30.06,-2.91 -2.06,-2.91
Top Component Center:
  lines w0.127: -0.127,0 0.127,0 ; 0,-0.127 0,0.127
Top Assembly:
  lines w0.254: -2.36,0.86 -2.36,2.11 -1.11,2.11 ; -1.95,-2.8 -1.95,1.7 29.95,1.7 29.95,-2.8 -1.95,-2.8
Top Courtyard:
  lines w0.254: -2.45,-3.3 -2.45,2.2 30.45,2.2 30.45,-3.3 -2.45,-3.3
Top Designator:
  text ".Designator" at 9.651,0.672 h1.52
3D body "JST_PH_B15B-PH-K_1x15_P2.00mm_Vertical.step": height 6, standoff -3.4, extent -1.95,-2.8 29.95,1.75

## JST_PH_B15B-PH-SM4-TB_1x15-1MP_P2.00mm_Vertical [mm] "JST_PH_B15B-PH-SM4-TB_1x15-1MP_P2.00mm_Vertical"
pads (17):
  rrect25% 1x5.5 smd: 1(-14,-0.5) 2(-12,-0.5) 3(-10,-0.5) 4(-8,-0.5) 5(-6,-0.5) 6(-4,-0.5) 7(-2,-0.5) 8(0,-0.5) 9(2,-0.5) 10(4,-0.5) 11(6,-0.5) 12(8,-0.5) 13(10,-0.5) 14(12,-0.5) 15(14,-0.5)
  rrect16% 1.6x3 smd: MP(-16.4,1.75) MP(16.4,1.75)
F.SilkS:
  lines w0.254: -17.085,-0.01 -17.085,-0.86 -14.76,-0.86 -14.76,-3.25 ; -17.085,3.51 -17.085,4.36 17.085,4.36 17.085,3.51 ; 14.76,-0.86 17.085,-0.86 17.085,-0.01
Top Component Center:
  lines w0.127: -0.127,0 0.127,0 ; 0,-0.127 0,0.127
Top Assembly:
  lines w0.254: -14.5,-0.75 -14,-0.043 -13.5,-0.75 ; -16.975,-0.75 -16.975,4.25 16.975,4.25 16.975,-0.75 -16.975,-0.75 ; -14.25,2.25 -14.25,2.75 -13.75,2.75 -13.75,2.25 -14.25,2.25 ; -12.25,2.25 -12.25,2.75 -11.75,2.75 -11.75,2.25 -12.25,2.25 ; -10.25,2.25 -10.25,2.75 -9.75,2.75 -9.75,2.25 -10.25,2.25 ; -8.25,2.25 -8.25,2.75 -7.75,2.75 -7.75,2.25 -8.25,2.25 ; -6.25,2.25 -6.25,2.75 -5.75,2.75 -5.75,2.25 -6.25,2.25 ; -4.25,2.25 -4.25,2.75 -3.75,2.75 -3.75,2.25 -4.25,2.25 ; -2.25,2.25 -2.25,2.75 -1.75,2.75 -1.75,2.25 -2.25,2.25 ; -0.25,2.25 -0.25,2.75 0.25,2.75 0.25,2.25 -0.25,2.25 ; 1.75,2.25 1.75,2.75 2.25,2.75 2.25,2.25 1.75,2.25 ; 3.75,2.25 3.75,2.75 4.25,2.75 4.25,2.25 3.75,2.25 ; 5.75,2.25 5.75,2.75 6.25,2.75 6.25,2.25 5.75,2.25 ; 7.75,2.25 7.75,2.75 8.25,2.75 8.25,2.25 7.75,2.25 ; 9.75,2.25 9.75,2.75 10.25,2.75 10.25,2.25 9.75,2.25 ; 11.75,2.25 11.75,2.75 12.25,2.75 12.25,2.25 11.75,2.25 ; 13.75,2.25 13.75,2.75 14.25,2.75 14.25,2.25 13.75,2.25
Top Courtyard:
  lines w0.254: -17.7,-0.25 -17.7,3.75 -17.48,3.75 -17.48,4.75 17.48,4.75 17.48,3.75 17.7,3.75 17.7,-0.25 17.48,-0.25 17.48,-1.25 15,-1.25 15,-3.75 -15,-3.75 -15,-1.25 -17.48,-1.25 -17.48,-0.25 -17.7,-0.25
Top Designator:
  text ".Designator" at -4.192,3.212 h1.52